# Altium integrated library TI Data Converters Digital to Analog Converter.IntLib: 1533 symbols (part 61 of 99)
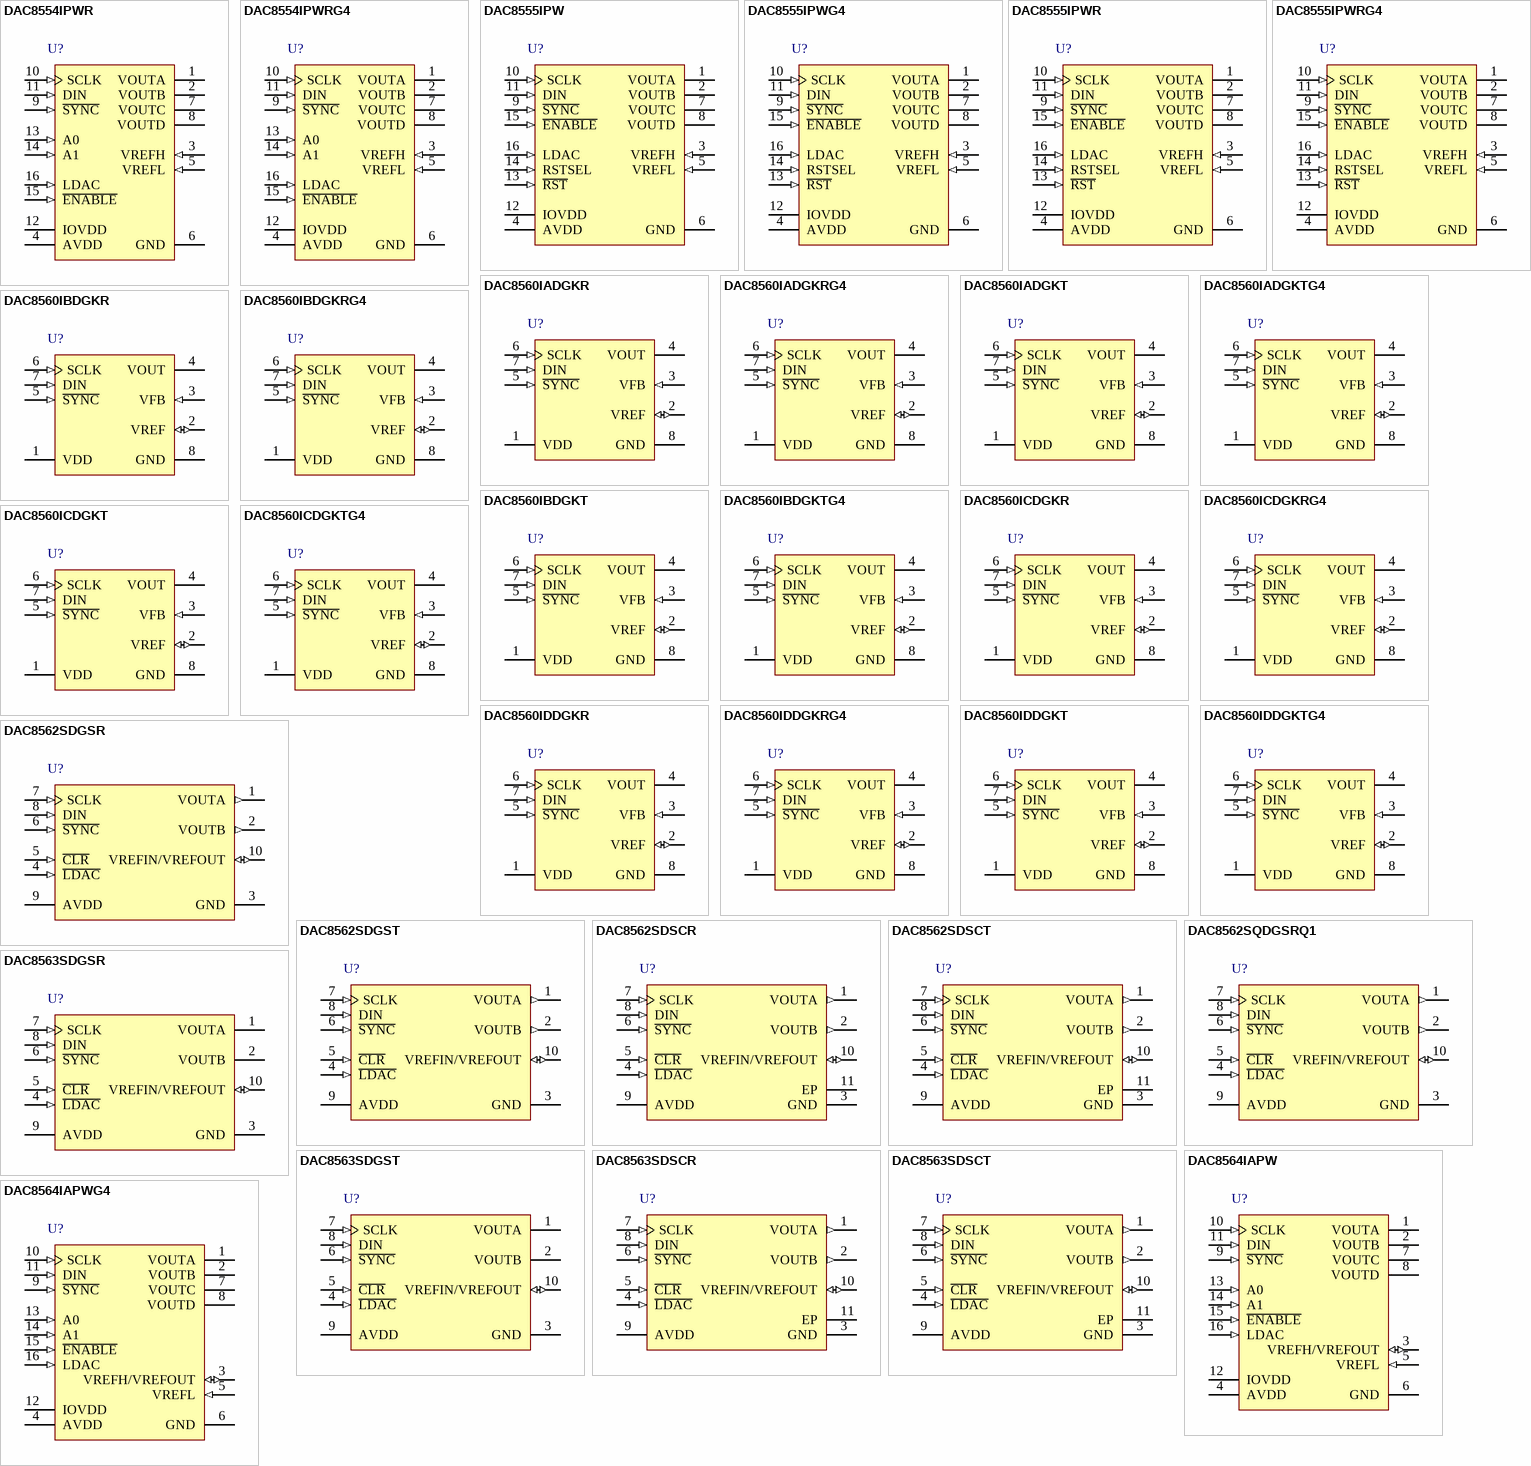
[diagram p133: symbols DAC8554IPWR to DAC8564IAPWG4]

## DAC8560IBDGKT
designator U?
16-Bit, Ultra-Low Glitch, Voltage Output DAC with 2.5 V, 2 ppm/degC Reference, -40 to 105 degC, 8-pin SOP (DGK8), Green (RoHS & no Sb/Br); Manufacturer: Texas Instruments; PartNumber: DAC8560IBDGKT; DAC Channels: 1; INL(Max)(+/-LSB): 8; Interface: Serial SPI; Power Consumption(Typ)(mW): 2.6; Resolution(Bits): 16; SFDR(dB): 79; SNR(dB): 88; SubFamily: Precision DAC (=<10MSPS); DatasheetVersion: SLAS464B; PackageVersion: 4073329/E, 05/2006; PackageReference: DGK8; PackageDescription: 8-Pin Thin Small Outline, Body 3 x 3 mm, Pitch 0.65 mm; Supplier 1: Digi-Key; Supplier Part Number 1: 296-21386-2-ND; Supplier 2: Digi-Key; Supplier Part Number 2: 296-21386-1-ND; Supplier 3: Digi-Key; Supplier Part Number 3: 296-21386-6-ND; Supplier 4: Newark; Supplier Part Number 4: 26M9122; Supplier 5: Mouser; Supplier Part Number 5: 595-DAC8560IBDGKT; DNL(Max)(+/-LSB): 1; Eco-Plan: Green (RoHS & no Sb/Br); Settling Time(us): 8; Mounting Technology: Surface Mount; Code_JEDEC: MO-187; ComponentLink1Description: Manufacturer URL; ComponentLink1URL: http://www.ti.com/; ComponentLink2Description: Datasheet; ComponentLink2URL: http://www.ti.com/general/docs/lit/getliterature.tsp?genericPartNumber=DAC8560&fileType=pdf; ComponentLink3Description: Package Specification; ComponentLink3URL: http://www.ti.com/litv/pdf/mpds028d
footprint TI-DGK8_N (SOP, 8-Leads, Body 3x3mm, Pitch 0.65mm, IPC Medium Density)
footprint TI-DGK8_L (SOP, 8-Leads, Body 3x3mm, Pitch 0.65mm, IPC High Density)
footprint TI-DGK8_M (SOP, 8-Leads, Body 3x3mm, Pitch 0.65mm, IPC Low Density)
pins: 1 VDD (power) "Power-Supply Input, +2.7V to +5.5V.", 2 VREF (io) "Reference voltage input/output.", 3 VFB (in) "Feedback connection for the output amplifier. For voltage output operation, tie to VOUT externally.", 4 VOUT (hiz) "Analog output voltage from DAC. The output amplifier has rail-to-rail operation.", 5 ~{SYNC} (in) "Level-triggered control input (active LOW). This is the frame sychronization signal for the input data. When S\Y\N\C\ goes LOW, it enables the input shift register and data is transferred in on the falling edges of the (See Datasheet)", 6 SCLK (in) "Serial clock input. Schmitt-Trigger logic input", 7 DIN (in) "Serial data input. Data is clocked into the 24-bit input shift register on each falling edge of the serial clock input.Schmitt-Trigger logic Input.", 8 GND (power) "Ground reference point for all circuitry on the part."

## DAC8560IBDGKTG4
designator U?
16-Bit, Ultra-Low Glitch, Voltage Output DAC with 2.5 V, 2 ppm/degC Reference, -40 to 105 degC, 8-pin SOP (DGK8), Green (RoHS & no Sb/Br); Manufacturer: Texas Instruments; PartNumber: DAC8560IBDGKTG4; DAC Channels: 1; INL(Max)(+/-LSB): 8; Interface: Serial SPI; Power Consumption(Typ)(mW): 2.6; Resolution(Bits): 16; SFDR(dB): 79; SNR(dB): 88; SubFamily: Precision DAC (=<10MSPS); DatasheetVersion: SLAS464B; PackageVersion: 4073329/E, 05/2006; PackageReference: DGK8; PackageDescription: 8-Pin Thin Small Outline, Body 3 x 3 mm, Pitch 0.65 mm; Supplier 1: Digi-Key; Supplier Part Number 1: DAC8560IBDGKTG4-ND; Supplier 2: Mouser; Supplier Part Number 2: 595-DAC8560IBDGKTG4; DNL(Max)(+/-LSB): 1; Eco-Plan: Green (RoHS & no Sb/Br); Settling Time(us): 8; Mounting Technology: Surface Mount; Code_JEDEC: MO-187; ComponentLink1Description: Manufacturer URL; ComponentLink1URL: http://www.ti.com/; ComponentLink2Description: Datasheet; ComponentLink2URL: http://www.ti.com/general/docs/lit/getliterature.tsp?genericPartNumber=DAC8560&fileType=pdf; ComponentLink3Description: Package Specification; ComponentLink3URL: http://www.ti.com/litv/pdf/mpds028d
footprint TI-DGK8_N (SOP, 8-Leads, Body 3x3mm, Pitch 0.65mm, IPC Medium Density)
footprint TI-DGK8_L (SOP, 8-Leads, Body 3x3mm, Pitch 0.65mm, IPC High Density)
footprint TI-DGK8_M (SOP, 8-Leads, Body 3x3mm, Pitch 0.65mm, IPC Low Density)
pins: 1 VDD (power) "Power-Supply Input, +2.7V to +5.5V.", 2 VREF (io) "Reference voltage input/output.", 3 VFB (in) "Feedback connection for the output amplifier. For voltage output operation, tie to VOUT externally.", 4 VOUT (hiz) "Analog output voltage from DAC. The output amplifier has rail-to-rail operation.", 5 ~{SYNC} (in) "Level-triggered control input (active LOW). This is the frame sychronization signal for the input data. When S\Y\N\C\ goes LOW, it enables the input shift register and data is transferred in on the falling edges of the (See Datasheet)", 6 SCLK (in) "Serial clock input. Schmitt-Trigger logic input", 7 DIN (in) "Serial data input. Data is clocked into the 24-bit input shift register on each falling edge of the serial clock input.Schmitt-Trigger logic Input.", 8 GND (power) "Ground reference point for all circuitry on the part."

## DAC8560ICDGKR
designator U?
16-Bit, Ultra-Low Glitch, Voltage Output DAC with 2.5 V, 2 ppm/degC Reference, -40 to 105 degC, 8-pin SOP (DGK8), Green (RoHS & no Sb/Br); Manufacturer: Texas Instruments; PartNumber: DAC8560ICDGKR; DAC Channels: 1; INL(Max)(+/-LSB): 12; Interface: Serial SPI; Power Consumption(Typ)(mW): 2.6; Resolution(Bits): 16; Settling Time(us): 8; SFDR(dB): 79; SNR(dB): 88; SubFamily: Precision DAC (=<10MSPS); DatasheetVersion: SLAS464B; PackageVersion: 4073329/E, 05/2006; PackageReference: DGK8; PackageDescription: 8-Pin Thin Small Outline, Body 3 x 3 mm, Pitch 0.65 mm; Supplier 1: Digi-Key; Supplier Part Number 1: DAC8560ICDGKR-ND; Supplier 2: Newark; Supplier Part Number 2: 26M9123; Supplier 3: Mouser; Supplier Part Number 3: 595-DAC8560ICDGKR; DNL(Max)(+/-LSB): 1; Eco-Plan: Green (RoHS & no Sb/Br); Mounting Technology: Surface Mount; Code_JEDEC: MO-187; ComponentLink1Description: Manufacturer URL; ComponentLink1URL: http://www.ti.com/; ComponentLink2Description: Datasheet; ComponentLink2URL: http://www.ti.com/general/docs/lit/getliterature.tsp?genericPartNumber=DAC8560&fileType=pdf; ComponentLink3Description: Package Specification; ComponentLink3URL: http://www.ti.com/litv/pdf/mpds028d
footprint TI-DGK8_N (SOP, 8-Leads, Body 3x3mm, Pitch 0.65mm, IPC Medium Density)
footprint TI-DGK8_L (SOP, 8-Leads, Body 3x3mm, Pitch 0.65mm, IPC High Density)
footprint TI-DGK8_M (SOP, 8-Leads, Body 3x3mm, Pitch 0.65mm, IPC Low Density)
pins: 1 VDD (power) "Power-Supply Input, +2.7V to +5.5V.", 2 VREF (io) "Reference voltage input/output.", 3 VFB (in) "Feedback connection for the output amplifier. For voltage output operation, tie to VOUT externally.", 4 VOUT (hiz) "Analog output voltage from DAC. The output amplifier has rail-to-rail operation.", 5 ~{SYNC} (in) "Level-triggered control input (active LOW). This is the frame sychronization signal for the input data. When S\Y\N\C\ goes LOW, it enables the input shift register and data is transferred in on the falling edges of the (See Datasheet)", 6 SCLK (in) "Serial clock input. Schmitt-Trigger logic input", 7 DIN (in) "Serial data input. Data is clocked into the 24-bit input shift register on each falling edge of the serial clock input.Schmitt-Trigger logic Input.", 8 GND (power) "Ground reference point for all circuitry on the part."

## DAC8560ICDGKRG4
designator U?
16-Bit, Ultra-Low Glitch, Voltage Output DAC with 2.5 V, 2 ppm/degC Reference, -40 to 105 degC, 8-pin SOP (DGK8), Green (RoHS & no Sb/Br); Manufacturer: Texas Instruments; PartNumber: DAC8560ICDGKRG4; DAC Channels: 1; INL(Max)(+/-LSB): 12; Interface: Serial SPI; Power Consumption(Typ)(mW): 2.6; Resolution(Bits): 16; Settling Time(us): 8; SFDR(dB): 79; SNR(dB): 88; SubFamily: Precision DAC (=<10MSPS); DatasheetVersion: SLAS464B; PackageVersion: 4073329/E, 05/2006; PackageReference: DGK8; PackageDescription: 8-Pin Thin Small Outline, Body 3 x 3 mm, Pitch 0.65 mm; Supplier 1: Digi-Key; Supplier Part Number 1: DAC8560ICDGKRG4-ND; Supplier 2: Mouser; Supplier Part Number 2: 595-DAC8560ICDGKRG4; DNL(Max)(+/-LSB): 1; Eco-Plan: Green (RoHS & no Sb/Br); Mounting Technology: Surface Mount; Code_JEDEC: MO-187; ComponentLink1Description: Manufacturer URL; ComponentLink1URL: http://www.ti.com/; ComponentLink2Description: Datasheet; ComponentLink2URL: http://www.ti.com/general/docs/lit/getliterature.tsp?genericPartNumber=DAC8560&fileType=pdf; ComponentLink3Description: Package Specification; ComponentLink3URL: http://www.ti.com/litv/pdf/mpds028d
footprint TI-DGK8_N (SOP, 8-Leads, Body 3x3mm, Pitch 0.65mm, IPC Medium Density)
footprint TI-DGK8_L (SOP, 8-Leads, Body 3x3mm, Pitch 0.65mm, IPC High Density)
footprint TI-DGK8_M (SOP, 8-Leads, Body 3x3mm, Pitch 0.65mm, IPC Low Density)
pins: 1 VDD (power) "Power-Supply Input, +2.7V to +5.5V.", 2 VREF (io) "Reference voltage input/output.", 3 VFB (in) "Feedback connection for the output amplifier. For voltage output operation, tie to VOUT externally.", 4 VOUT (hiz) "Analog output voltage from DAC. The output amplifier has rail-to-rail operation.", 5 ~{SYNC} (in) "Level-triggered control input (active LOW). This is the frame sychronization signal for the input data. When S\Y\N\C\ goes LOW, it enables the input shift register and data is transferred in on the falling edges of the (See Datasheet)", 6 SCLK (in) "Serial clock input. Schmitt-Trigger logic input", 7 DIN (in) "Serial data input. Data is clocked into the 24-bit input shift register on each falling edge of the serial clock input.Schmitt-Trigger logic Input.", 8 GND (power) "Ground reference point for all circuitry on the part."

## DAC8560ICDGKT
designator U?
16-Bit, Ultra-Low Glitch, Voltage Output DAC with 2.5 V, 2 ppm/degC Reference, -40 to 105 degC, 8-pin SOP (DGK8), Green (RoHS & no Sb/Br); Manufacturer: Texas Instruments; PartNumber: DAC8560ICDGKT; DAC Channels: 1; INL(Max)(+/-LSB): 12; Interface: Serial SPI; Power Consumption(Typ)(mW): 2.6; Resolution(Bits): 16; Settling Time(us): 8; SFDR(dB): 79; SNR(dB): 88; SubFamily: Precision DAC (=<10MSPS); DatasheetVersion: SLAS464B; PackageVersion: 4073329/E, 05/2006; PackageReference: DGK8; PackageDescription: 8-Pin Thin Small Outline, Body 3 x 3 mm, Pitch 0.65 mm; Supplier 1: Digi-Key; Supplier Part Number 1: 296-21387-2-ND; Supplier 2: Digi-Key; Supplier Part Number 2: 296-21387-1-ND; Supplier 3: Digi-Key; Supplier Part Number 3: 296-21387-6-ND; Supplier 4: Newark; Supplier Part Number 4: 26M9124; Supplier 5: Mouser; Supplier Part Number 5: 595-DAC8560ICDGKT; DNL(Max)(+/-LSB): 1; Eco-Plan: Green (RoHS & no Sb/Br); Mounting Technology: Surface Mount; Code_JEDEC: MO-187; ComponentLink1Description: Manufacturer URL; ComponentLink1URL: http://www.ti.com/; ComponentLink2Description: Datasheet; ComponentLink2URL: http://www.ti.com/general/docs/lit/getliterature.tsp?genericPartNumber=DAC8560&fileType=pdf; ComponentLink3Description: Package Specification; ComponentLink3URL: http://www.ti.com/litv/pdf/mpds028d
footprint TI-DGK8_N (SOP, 8-Leads, Body 3x3mm, Pitch 0.65mm, IPC Medium Density)
footprint TI-DGK8_L (SOP, 8-Leads, Body 3x3mm, Pitch 0.65mm, IPC High Density)
footprint TI-DGK8_M (SOP, 8-Leads, Body 3x3mm, Pitch 0.65mm, IPC Low Density)
pins: 1 VDD (power) "Power-Supply Input, +2.7V to +5.5V.", 2 VREF (io) "Reference voltage input/output.", 3 VFB (in) "Feedback connection for the output amplifier. For voltage output operation, tie to VOUT externally.", 4 VOUT (hiz) "Analog output voltage from DAC. The output amplifier has rail-to-rail operation.", 5 ~{SYNC} (in) "Level-triggered control input (active LOW). This is the frame sychronization signal for the input data. When S\Y\N\C\ goes LOW, it enables the input shift register and data is transferred in on the falling edges of the (See Datasheet)", 6 SCLK (in) "Serial clock input. Schmitt-Trigger logic input", 7 DIN (in) "Serial data input. Data is clocked into the 24-bit input shift register on each falling edge of the serial clock input.Schmitt-Trigger logic Input.", 8 GND (power) "Ground reference point for all circuitry on the part."

## DAC8560ICDGKTG4
designator U?
16-Bit, Ultra-Low Glitch, Voltage Output DAC with 2.5 V, 2 ppm/degC Reference, -40 to 105 degC, 8-pin SOP (DGK8), Green (RoHS & no Sb/Br); Manufacturer: Texas Instruments; PartNumber: DAC8560ICDGKTG4; DAC Channels: 1; INL(Max)(+/-LSB): 12; Interface: Serial SPI; Power Consumption(Typ)(mW): 2.6; Resolution(Bits): 16; Settling Time(us): 8; SFDR(dB): 79; SNR(dB): 88; SubFamily: Precision DAC (=<10MSPS); DatasheetVersion: SLAS464B; PackageVersion: 4073329/E, 05/2006; PackageReference: DGK8; PackageDescription: 8-Pin Thin Small Outline, Body 3 x 3 mm, Pitch 0.65 mm; Supplier 1: Digi-Key; Supplier Part Number 1: DAC8560ICDGKTG4-ND; Supplier 2: Mouser; Supplier Part Number 2: 595-DAC8560ICDGKTG4; DNL(Max)(+/-LSB): 1; Eco-Plan: Green (RoHS & no Sb/Br); Mounting Technology: Surface Mount; Code_JEDEC: MO-187; ComponentLink1Description: Manufacturer URL; ComponentLink1URL: http://www.ti.com/; ComponentLink2Description: Datasheet; ComponentLink2URL: http://www.ti.com/general/docs/lit/getliterature.tsp?genericPartNumber=DAC8560&fileType=pdf; ComponentLink3Description: Package Specification; ComponentLink3URL: http://www.ti.com/litv/pdf/mpds028d
footprint TI-DGK8_N (SOP, 8-Leads, Body 3x3mm, Pitch 0.65mm, IPC Medium Density)
footprint TI-DGK8_L (SOP, 8-Leads, Body 3x3mm, Pitch 0.65mm, IPC High Density)
footprint TI-DGK8_M (SOP, 8-Leads, Body 3x3mm, Pitch 0.65mm, IPC Low Density)
pins: 1 VDD (power) "Power-Supply Input, +2.7V to +5.5V.", 2 VREF (io) "Reference voltage input/output.", 3 VFB (in) "Feedback connection for the output amplifier. For voltage output operation, tie to VOUT externally.", 4 VOUT (hiz) "Analog output voltage from DAC. The output amplifier has rail-to-rail operation.", 5 ~{SYNC} (in) "Level-triggered control input (active LOW). This is the frame sychronization signal for the input data. When S\Y\N\C\ goes LOW, it enables the input shift register and data is transferred in on the falling edges of the (See Datasheet)", 6 SCLK (in) "Serial clock input. Schmitt-Trigger logic input", 7 DIN (in) "Serial data input. Data is clocked into the 24-bit input shift register on each falling edge of the serial clock input.Schmitt-Trigger logic Input.", 8 GND (power) "Ground reference point for all circuitry on the part."

## DAC8560IDDGKR
designator U?
16-Bit, Ultra-Low Glitch, Voltage Output DAC with 2.5 V, 2 ppm/degC Reference, -40 to 105 degC, 8-pin SOP (DGK8), Green (RoHS & no Sb/Br); Manufacturer: Texas Instruments; PartNumber: DAC8560IDDGKR; DAC Channels: 1; INL(Max)(+/-LSB): 8; Interface: Serial SPI; Power Consumption(Typ)(mW): 2.6; Resolution(Bits): 16; SFDR(dB): 79; SNR(dB): 88; SubFamily: Precision DAC (=<10MSPS); DatasheetVersion: SLAS464B; PackageVersion: 4073329/E, 05/2006; PackageReference: DGK8; PackageDescription: 8-Pin Thin Small Outline, Body 3 x 3 mm, Pitch 0.65 mm; Supplier 1: Digi-Key; Supplier Part Number 1: DAC8560IDDGKR-ND; Supplier 2: Newark; Supplier Part Number 2: 26M9125; Supplier 3: Mouser; Supplier Part Number 3: 595-DAC8560IDDGKR; DNL(Max)(+/-LSB): 1; Eco-Plan: Green (RoHS & no Sb/Br); Settling Time(us): 8; Mounting Technology: Surface Mount; Code_JEDEC: MO-187; ComponentLink1Description: Manufacturer URL; ComponentLink1URL: http://www.ti.com/; ComponentLink2Description: Datasheet; ComponentLink2URL: http://www.ti.com/general/docs/lit/getliterature.tsp?genericPartNumber=DAC8560&fileType=pdf; ComponentLink3Description: Package Specification; ComponentLink3URL: http://www.ti.com/litv/pdf/mpds028d
footprint TI-DGK8_N (SOP, 8-Leads, Body 3x3mm, Pitch 0.65mm, IPC Medium Density)
footprint TI-DGK8_L (SOP, 8-Leads, Body 3x3mm, Pitch 0.65mm, IPC High Density)
footprint TI-DGK8_M (SOP, 8-Leads, Body 3x3mm, Pitch 0.65mm, IPC Low Density)
pins: 1 VDD (power) "Power-Supply Input, +2.7V to +5.5V.", 2 VREF (io) "Reference voltage input/output.", 3 VFB (in) "Feedback connection for the output amplifier. For voltage output operation, tie to VOUT externally.", 4 VOUT (hiz) "Analog output voltage from DAC. The output amplifier has rail-to-rail operation.", 5 ~{SYNC} (in) "Level-triggered control input (active LOW). This is the frame sychronization signal for the input data. When S\Y\N\C\ goes LOW, it enables the input shift register and data is transferred in on the falling edges of the (See Datasheet)", 6 SCLK (in) "Serial clock input. Schmitt-Trigger logic input", 7 DIN (in) "Serial data input. Data is clocked into the 24-bit input shift register on each falling edge of the serial clock input.Schmitt-Trigger logic Input.", 8 GND (power) "Ground reference point for all circuitry on the part."

## DAC8560IDDGKRG4
designator U?
16-Bit, Ultra-Low Glitch, Voltage Output DAC with 2.5 V, 2 ppm/degC Reference, -40 to 105 degC, 8-pin SOP (DGK8), Green (RoHS & no Sb/Br); Manufacturer: Texas Instruments; PartNumber: DAC8560IDDGKRG4; DAC Channels: 1; INL(Max)(+/-LSB): 8; Interface: Serial SPI; Power Consumption(Typ)(mW): 2.6; Resolution(Bits): 16; SFDR(dB): 79; SNR(dB): 88; SubFamily: Precision DAC (=<10MSPS); DatasheetVersion: SLAS464B; PackageVersion: 4073329/E, 05/2006; PackageReference: DGK8; PackageDescription: 8-Pin Thin Small Outline, Body 3 x 3 mm, Pitch 0.65 mm; Supplier 1: Digi-Key; Supplier Part Number 1: DAC8560IDDGKRG4-ND; Supplier 2: Newark; Supplier Part Number 2: 28M5372; Supplier 3: Mouser; Supplier Part Number 3: 595-DAC8560IDDGKRG4; DNL(Max)(+/-LSB): 1; Eco-Plan: Green (RoHS & no Sb/Br); Settling Time(us): 8; Mounting Technology: Surface Mount; Code_JEDEC: MO-187; ComponentLink1Description: Manufacturer URL; ComponentLink1URL: http://www.ti.com/; ComponentLink2Description: Datasheet; ComponentLink2URL: http://www.ti.com/general/docs/lit/getliterature.tsp?genericPartNumber=DAC8560&fileType=pdf; ComponentLink3Description: Package Specification; ComponentLink3URL: http://www.ti.com/litv/pdf/mpds028d
footprint TI-DGK8_N (SOP, 8-Leads, Body 3x3mm, Pitch 0.65mm, IPC Medium Density)
footprint TI-DGK8_L (SOP, 8-Leads, Body 3x3mm, Pitch 0.65mm, IPC High Density)
footprint TI-DGK8_M (SOP, 8-Leads, Body 3x3mm, Pitch 0.65mm, IPC Low Density)
pins: 1 VDD (power) "Power-Supply Input, +2.7V to +5.5V.", 2 VREF (io) "Reference voltage input/output.", 3 VFB (in) "Feedback connection for the output amplifier. For voltage output operation, tie to VOUT externally.", 4 VOUT (hiz) "Analog output voltage from DAC. The output amplifier has rail-to-rail operation.", 5 ~{SYNC} (in) "Level-triggered control input (active LOW). This is the frame sychronization signal for the input data. When S\Y\N\C\ goes LOW, it enables the input shift register and data is transferred in on the falling edges of the (See Datasheet)", 6 SCLK (in) "Serial clock input. Schmitt-Trigger logic input", 7 DIN (in) "Serial data input. Data is clocked into the 24-bit input shift register on each falling edge of the serial clock input.Schmitt-Trigger logic Input.", 8 GND (power) "Ground reference point for all circuitry on the part."

## DAC8560IDDGKT
designator U?
16-Bit, Ultra-Low Glitch, Voltage Output DAC with 2.5 V, 2 ppm/degC Reference, -40 to 105 degC, 8-pin SOP (DGK8), Green (RoHS & no Sb/Br); Manufacturer: Texas Instruments; PartNumber: DAC8560IDDGKT; DAC Channels: 1; INL(Max)(+/-LSB): 8; Interface: Serial SPI; Power Consumption(Typ)(mW): 2.6; Resolution(Bits): 16; SFDR(dB): 79; SNR(dB): 88; SubFamily: Precision DAC (=<10MSPS); DatasheetVersion: SLAS464B; PackageVersion: 4073329/E, 05/2006; PackageReference: DGK8; PackageDescription: 8-Pin Thin Small Outline, Body 3 x 3 mm, Pitch 0.65 mm; Supplier 1: Digi-Key; Supplier Part Number 1: 296-21388-2-ND; Supplier 2: Digi-Key; Supplier Part Number 2: 296-21388-1-ND; Supplier 3: Digi-Key; Supplier Part Number 3: 296-21388-6-ND; Supplier 4: Newark; Supplier Part Number 4: 26M9126; Supplier 5: Mouser; Supplier Part Number 5: 595-DAC8560IDDGKT; DNL(Max)(+/-LSB): 1; Eco-Plan: Green (RoHS & no Sb/Br); Settling Time(us): 8; Mounting Technology: Surface Mount; Code_JEDEC: MO-187; ComponentLink1Description: Manufacturer URL; ComponentLink1URL: http://www.ti.com/; ComponentLink2Description: Datasheet; ComponentLink2URL: http://www.ti.com/general/docs/lit/getliterature.tsp?genericPartNumber=DAC8560&fileType=pdf; ComponentLink3Description: Package Specification; ComponentLink3URL: http://www.ti.com/litv/pdf/mpds028d
footprint TI-DGK8_N (SOP, 8-Leads, Body 3x3mm, Pitch 0.65mm, IPC Medium Density)
footprint TI-DGK8_L (SOP, 8-Leads, Body 3x3mm, Pitch 0.65mm, IPC High Density)
footprint TI-DGK8_M (SOP, 8-Leads, Body 3x3mm, Pitch 0.65mm, IPC Low Density)
pins: 1 VDD (power) "Power-Supply Input, +2.7V to +5.5V.", 2 VREF (io) "Reference voltage input/output.", 3 VFB (in) "Feedback connection for the output amplifier. For voltage output operation, tie to VOUT externally.", 4 VOUT (hiz) "Analog output voltage from DAC. The output amplifier has rail-to-rail operation.", 5 ~{SYNC} (in) "Level-triggered control input (active LOW). This is the frame sychronization signal for the input data. When S\Y\N\C\ goes LOW, it enables the input shift register and data is transferred in on the falling edges of the (See Datasheet)", 6 SCLK (in) "Serial clock input. Schmitt-Trigger logic input", 7 DIN (in) "Serial data input. Data is clocked into the 24-bit input shift register on each falling edge of the serial clock input.Schmitt-Trigger logic Input.", 8 GND (power) "Ground reference point for all circuitry on the part."

## DAC8560IDDGKTG4
designator U?
16-Bit, Ultra-Low Glitch, Voltage Output DAC with 2.5 V, 2 ppm/degC Reference, -40 to 105 degC, 8-pin SOP (DGK8), Green (RoHS & no Sb/Br); Manufacturer: Texas Instruments; PartNumber: DAC8560IDDGKTG4; DAC Channels: 1; INL(Max)(+/-LSB): 8; Interface: Serial SPI; Power Consumption(Typ)(mW): 2.6; Resolution(Bits): 16; SFDR(dB): 79; SNR(dB): 88; SubFamily: Precision DAC (=<10MSPS); DatasheetVersion: SLAS464B; PackageVersion: 4073329/E, 05/2006; PackageReference: DGK8; PackageDescription: 8-Pin Thin Small Outline, Body 3 x 3 mm, Pitch 0.65 mm; Supplier 1: Digi-Key; Supplier Part Number 1: DAC8560IDDGKTG4-ND; Supplier 2: Farnell; Supplier Part Number 2: 1390683; Supplier 3: Newark; Supplier Part Number 3: 61M5760; Supplier 4: Newark; Supplier Part Number 4: 28M5373; Supplier 5: Mouser; Supplier Part Number 5: 595-DAC8560IDDGKTG4; DNL(Max)(+/-LSB): 1; Eco-Plan: Green (RoHS & no Sb/Br); Settling Time(us): 8; Mounting Technology: Surface Mount; Code_JEDEC: MO-187; ComponentLink1Description: Manufacturer URL; ComponentLink1URL: http://www.ti.com/; ComponentLink2Description: Datasheet; ComponentLink2URL: http://www.ti.com/general/docs/lit/getliterature.tsp?genericPartNumber=DAC8560&fileType=pdf; ComponentLink3Description: Package Specification; ComponentLink3URL: http://www.ti.com/litv/pdf/mpds028d
footprint TI-DGK8_N (SOP, 8-Leads, Body 3x3mm, Pitch 0.65mm, IPC Medium Density)
footprint TI-DGK8_L (SOP, 8-Leads, Body 3x3mm, Pitch 0.65mm, IPC High Density)
footprint TI-DGK8_M (SOP, 8-Leads, Body 3x3mm, Pitch 0.65mm, IPC Low Density)
pins: 1 VDD (power) "Power-Supply Input, +2.7V to +5.5V.", 2 VREF (io) "Reference voltage input/output.", 3 VFB (in) "Feedback connection for the output amplifier. For voltage output operation, tie to VOUT externally.", 4 VOUT (hiz) "Analog output voltage from DAC. The output amplifier has rail-to-rail operation.", 5 ~{SYNC} (in) "Level-triggered control input (active LOW). This is the frame sychronization signal for the input data. When S\Y\N\C\ goes LOW, it enables the input shift register and data is transferred in on the falling edges of the (See Datasheet)", 6 SCLK (in) "Serial clock input. Schmitt-Trigger logic input", 7 DIN (in) "Serial data input. Data is clocked into the 24-bit input shift register on each falling edge of the serial clock input.Schmitt-Trigger logic Input.", 8 GND (power) "Ground reference point for all circuitry on the part."

## DAC8562SDGSR
designator U?
16-Bit, Dual, Low Power, Ultra-Low Glitch, Buffered Voltage Output DAC with 2.5 V, 4 ppm/degC Reference, -40 to 125 degC, 10-pin SOP (DGS10), Green (RoHS & no Sb/Br); Manufacturer: Texas Instruments; PartNumber: DAC8562SDGSR; DAC Channels: 2; DNL(Max)(+/-LSB): 1; INL(Max)(+/-LSB): 12; Interface: Serial SPI; Power Consumption(Typ)(mW): 0.9; Resolution(Bits): 16; Settling Time(us): 7; SubFamily: Precision DAC (=<10MSPS); DatasheetVersion: SLAS719D; PackageVersion: 4073272/C, 02/2004; PackageReference: DGS10; PackageDescription: 10-Pin Plastic Small Outline, Body 3 x 3 mm, Pitch 0.5 mm; Supplier 1: Digi-Key; Supplier Part Number 1: 296-29030-2-ND; Supplier 2: Digi-Key; Supplier Part Number 2: 296-29030-1-ND; Supplier 3: Digi-Key; Supplier Part Number 3: 296-29030-6-ND; Supplier 4: Newark; Supplier Part Number 4: 52T7723; Supplier 5: Mouser; Supplier Part Number 5: 595-DAC8562SDGSR; Eco-Plan: Green (RoHS & no Sb/Br); Mounting Technology: Surface Mount; Code_JEDEC: MO-153; ComponentLink1Description: Manufacturer URL; ComponentLink1URL: http://www.ti.com/; ComponentLink2Description: Datasheet; ComponentLink2URL: http://www.ti.com/general/docs/lit/getliterature.tsp?genericPartNumber=DAC8562&fileType=pdf; ComponentLink3Description: Package Specification; ComponentLink3URL: http://www.ti.com/lit/ml/mpds035b/mpds035b.pdf
footprint TI-DGS10_N (SOP, 10-Leads, Body 3x3mm, Pitch 0.5mm, IPC Medium Density)
footprint TI-DGS10_L (SOP, 10-Leads, Body 3x3mm, Pitch 0.5mm, IPC High Density)
footprint TI-DGS10_M (SOP, 10-Leads, Body 3x3mm, Pitch 0.5mm, IPC Low Density)
pins: 1 VOUTA (out) "Analog output voltage from DAC-A", 2 VOUTB (out) "Analog output voltage from DAC-B", 3 GND (power) "Ground reference point for all circuitry on the device", 4 ~{LDAC} (in) "In synchronous mode, data are updated with the falling edge of the 24th SCLK cycle, which follows a falling edge of S\Y\N\C\. For such synchronous updates, the L\D\A\C\ pin is not required, and it must be connected to GND (See Datasheet)", 5 ~{CLR} (in) "Asynchronous clear input. The C\L\R\ input is falling-edge sensitive. When C\L\R\ is activated, zero scale (DACxx62) or mid-scale (DACxx63) is loaded to all input and DAC registers. This sets the DAC output voltages (See Datasheet)", 6 ~{SYNC} (in) "Level-triggered control input (active-low). This input is the frame synchronization signal for the input data. When S\Y\N\C\ goes low, it enables the input shift register, and data are sampled on subsequent falling clock (See Datasheet)", 7 SCLK (in) "Serial clock input. Data can be transferred at rates up to 50 MHz. Schmitt-trigger logic input", 8 DIN (in) "Serial data input. Data are clocked into the 24-bit input shift register on each falling edge of the serial clock input. Schmitt-trigger logic input", 9 AVDD (power) "Power-supply input, 2.7 V to 5.5 V", 10 VREFIN/VREFOUT (io) "Bidirectional voltage reference pin. If internal reference is used, 2.5-V output."

## DAC8562SDGST
designator U?
16-Bit, Dual, Low Power, Ultra-Low Glitch, Buffered Voltage Output DAC with 2.5 V, 4 ppm/degC Reference, -40 to 125 degC, 10-pin SOP (DGS10), Green (RoHS & no Sb/Br); Manufacturer: Texas Instruments; PartNumber: DAC8562SDGST; DAC Channels: 2; DNL(Max)(+/-LSB): 1; INL(Max)(+/-LSB): 12; Interface: Serial SPI; Power Consumption(Typ)(mW): 0.9; Resolution(Bits): 16; Settling Time(us): 7; SubFamily: Precision DAC (=<10MSPS); DatasheetVersion: SLAS719D; PackageVersion: 4073272/C, 02/2004; PackageReference: DGS10; PackageDescription: 10-Pin Plastic Small Outline, Body 3 x 3 mm, Pitch 0.5 mm; Supplier 1: Digi-Key; Supplier Part Number 1: DAC8562SDGST-ND; Supplier 2: Newark; Supplier Part Number 2: 51T4338; Supplier 3: Mouser; Supplier Part Number 3: 595-DAC8562SDGST; Eco-Plan: Green (RoHS & no Sb/Br); Mounting Technology: Surface Mount; Code_JEDEC: MO-153; ComponentLink1Description: Manufacturer URL; ComponentLink1URL: http://www.ti.com/; ComponentLink2Description: Datasheet; ComponentLink2URL: http://www.ti.com/general/docs/lit/getliterature.tsp?genericPartNumber=DAC8562&fileType=pdf; ComponentLink3Description: Package Specification; ComponentLink3URL: http://www.ti.com/lit/ml/mpds035b/mpds035b.pdf
footprint TI-DGS10_N (SOP, 10-Leads, Body 3x3mm, Pitch 0.5mm, IPC Medium Density)
footprint TI-DGS10_L (SOP, 10-Leads, Body 3x3mm, Pitch 0.5mm, IPC High Density)
footprint TI-DGS10_M (SOP, 10-Leads, Body 3x3mm, Pitch 0.5mm, IPC Low Density)
pins: 1 VOUTA (out) "Analog output voltage from DAC-A", 2 VOUTB (out) "Analog output voltage from DAC-B", 3 GND (power) "Ground reference point for all circuitry on the device", 4 ~{LDAC} (in) "In synchronous mode, data are updated with the falling edge of the 24th SCLK cycle, which follows a falling edge of S\Y\N\C\. For such synchronous updates, the L\D\A\C\ pin is not required, and it must be connected to GND (See Datasheet)", 5 ~{CLR} (in) "Asynchronous clear input. The C\L\R\ input is falling-edge sensitive. When C\L\R\ is activated, zero scale (DACxx62) or mid-scale (DACxx63) is loaded to all input and DAC registers. This sets the DAC output voltages (See Datasheet)", 6 ~{SYNC} (in) "Level-triggered control input (active-low). This input is the frame synchronization signal for the input data. When S\Y\N\C\ goes low, it enables the input shift register, and data are sampled on subsequent falling clock (See Datasheet)", 7 SCLK (in) "Serial clock input. Data can be transferred at rates up to 50 MHz. Schmitt-trigger logic input", 8 DIN (in) "Serial data input. Data are clocked into the 24-bit input shift register on each falling edge of the serial clock input. Schmitt-trigger logic input", 9 AVDD (power) "Power-supply input, 2.7 V to 5.5 V", 10 VREFIN/VREFOUT (io) "Bidirectional voltage reference pin. If internal reference is used, 2.5-V output."

## DAC8562SDSCR
designator U?
16-Bit, Dual, Low Power, Ultra-Low Glitch, Buffered Voltage Output DAC with 2.5 V, 4 ppm/degC Reference, -40 to 125 degC, 10-pin SON (DSC10), Green (RoHS & no Sb/Br); Manufacturer: Texas Instruments; PartNumber: DAC8562SDSCR; DAC Channels: 2; DNL(Max)(+/-LSB): 1; INL(Max)(+/-LSB): 12; Interface: Serial SPI; Power Consumption(Typ)(mW): 0.9; Resolution(Bits): 16; Settling Time(us): 7; SubFamily: Precision DAC (=<10MSPS); DatasheetVersion: SLAS719D; PackageVersion: 4207383/E, 01/2011; PackageReference: DSC10-2550X1050TP; PackageDescription: 10-Pin Plastic Small Outline No-Lead, Body 3 x 3 mm, Pitch 0.5 mm; Supplier 1: Digi-Key; Supplier Part Number 1: 296-29031-2-ND; Supplier 2: Digi-Key; Supplier Part Number 2: 296-29031-1-ND; Supplier 3: Digi-Key; Supplier Part Number 3: 296-29031-6-ND; Supplier 4: Mouser; Supplier Part Number 4: 595-DAC8562SDSCR; Eco-Plan: Green (RoHS & no Sb/Br); Mounting Technology: Surface Mount; ComponentLink1Description: Manufacturer URL; ComponentLink1URL: http://www.ti.com/; ComponentLink2Description: Datasheet; ComponentLink2URL: http://www.ti.com/general/docs/lit/getliterature.tsp?genericPartNumber=DAC8562&fileType=pdf; ComponentLink3Description: Package Specification; ComponentLink3URL: http://www.ti.com/litv/pdf/mpds239d
footprint TI-DSC10-2550X1050TP_V (SON, 10-Leads, Body 3x3mm, Pitch 0.5mm, Thermal Pad 2.91x1.05mm)
pins: 1 VOUTA (out) "Analog output voltage from DAC-A", 2 VOUTB (out) "Analog output voltage from DAC-B", 3 GND (power) "Ground reference point for all circuitry on the device", 4 ~{LDAC} (in) "In synchronous mode, data are updated with the falling edge of the 24th SCLK cycle, which follows a falling edge of S\Y\N\C\. For such synchronous updates, the L\D\A\C\ pin is not required, and it must be connected to GND (See Datasheet)", 5 ~{CLR} (in) "Asynchronous clear input. The C\L\R\ input is falling-edge sensitive. When C\L\R\ is activated, zero scale (DACxx62) or mid-scale (DACxx63) is loaded to all input and DAC registers. This sets the DAC output voltages (See Datasheet)", 6 ~{SYNC} (in) "Level-triggered control input (active-low). This input is the frame synchronization signal for the input data. When S\Y\N\C\ goes low, it enables the input shift register, and data are sampled on subsequent falling clock (See Datasheet)", 7 SCLK (in) "Serial clock input. Data can be transferred at rates up to 50 MHz. Schmitt-trigger logic input", 8 DIN (in) "Serial data input. Data are clocked into the 24-bit input shift register on each falling edge of the serial clock input. Schmitt-trigger logic input", 9 AVDD (power) "Power-supply input, 2.7 V to 5.5 V", 10 VREFIN/VREFOUT (io) "Bidirectional voltage reference pin. If internal reference is used, 2.5-V output.", 11 EP (power) "It is recommended to connect the thermal pad to the ground plane for better thermal dissipation."

## DAC8562SDSCT
designator U?
16-Bit, Dual, Low Power, Ultra-Low Glitch, Buffered Voltage Output DAC with 2.5 V, 4 ppm/degC Reference, -40 to 125 degC, 10-pin SON (DSC10), Green (RoHS & no Sb/Br); Manufacturer: Texas Instruments; PartNumber: DAC8562SDSCT; DAC Channels: 2; DNL(Max)(+/-LSB): 1; INL(Max)(+/-LSB): 12; Interface: Serial SPI; Power Consumption(Typ)(mW): 0.9; Resolution(Bits): 16; Settling Time(us): 7; SubFamily: Precision DAC (=<10MSPS); DatasheetVersion: SLAS719D; PackageVersion: 4207383/E, 01/2011; PackageReference: DSC10-2550X1050TP; PackageDescription: 10-Pin Plastic Small Outline No-Lead, Body 3 x 3 mm, Pitch 0.5 mm; Supplier 1: Digi-Key; Supplier Part Number 1: 296-29098-2-ND; Supplier 2: Digi-Key; Supplier Part Number 2: 296-29098-1-ND; Supplier 3: Digi-Key; Supplier Part Number 3: 296-29098-6-ND; Supplier 4: Farnell; Supplier Part Number 4: 1924805; Supplier 5: Newark; Supplier Part Number 5: 51T4339; Supplier 6: Mouser; Supplier Part Number 6: 595-DAC8562SDSCT; Eco-Plan: Green (RoHS & no Sb/Br); Mounting Technology: Surface Mount; ComponentLink1Description: Manufacturer URL; ComponentLink1URL: http://www.ti.com/; ComponentLink2Description: Datasheet; ComponentLink2URL: http://www.ti.com/general/docs/lit/getliterature.tsp?genericPartNumber=DAC8562&fileType=pdf; ComponentLink3Description: Package Specification; ComponentLink3URL: http://www.ti.com/litv/pdf/mpds239d
footprint TI-DSC10-2550X1050TP_V (SON, 10-Leads, Body 3x3mm, Pitch 0.5mm, Thermal Pad 2.91x1.05mm)
pins: 1 VOUTA (out) "Analog output voltage from DAC-A", 2 VOUTB (out) "Analog output voltage from DAC-B", 3 GND (power) "Ground reference point for all circuitry on the device", 4 ~{LDAC} (in) "In synchronous mode, data are updated with the falling edge of the 24th SCLK cycle, which follows a falling edge of S\Y\N\C\. For such synchronous updates, the L\D\A\C\ pin is not required, and it must be connected to GND (See Datasheet)", 5 ~{CLR} (in) "Asynchronous clear input. The C\L\R\ input is falling-edge sensitive. When C\L\R\ is activated, zero scale (DACxx62) or mid-scale (DACxx63) is loaded to all input and DAC registers. This sets the DAC output voltages (See Datasheet)", 6 ~{SYNC} (in) "Level-triggered control input (active-low). This input is the frame synchronization signal for the input data. When S\Y\N\C\ goes low, it enables the input shift register, and data are sampled on subsequent falling clock (See Datasheet)", 7 SCLK (in) "Serial clock input. Data can be transferred at rates up to 50 MHz. Schmitt-trigger logic input", 8 DIN (in) "Serial data input. Data are clocked into the 24-bit input shift register on each falling edge of the serial clock input. Schmitt-trigger logic input", 9 AVDD (power) "Power-supply input, 2.7 V to 5.5 V", 10 VREFIN/VREFOUT (io) "Bidirectional voltage reference pin. If internal reference is used, 2.5-V output.", 11 EP (power) "It is recommended to connect the thermal pad to the ground plane for better thermal dissipation."

## DAC8562SQDGSRQ1
designator U?
Automotive 16-Bit, Dual, Low Power, Ultra-Low Glitch, Buffered Voltage Out DAC with 2.5 V, 4 ppm/degC Reference, -40 to 125 degC, 10-pin SOP (DGS10); Manufacturer: Texas Instruments; PartNumber: DAC8562SQDGSRQ1; DAC Channels: 2; DNL(Max)(+/-LSB): 1; INL(Max)(+/-LSB): 12; Packing: LARGE T&R; Power Consumption(Typ)(mW): 0.54; Resolution(Bits): 16; Settling Time(us): 7; SubFamily: Precision DAC (=<10MSPS); DatasheetVersion: SLAS950; PackageVersion: 4073272/C, 02/2004; PackageReference: DGS10; PackageDescription: 10-Pin Plastic Small Outline, Body 3 x 3 mm, Pitch 0.5 mm; Supplier 1: Newark; Supplier Part Number 1: 94W8070; Supplier 2: Mouser; Supplier Part Number 2: 595-DAC8562SQDGSRQ1; Mounting Technology: Surface Mount; Code_JEDEC: MO-153; ComponentLink1Description: Manufacturer URL; ComponentLink1URL: http://www.ti.com/; ComponentLink2Description: Datasheet; ComponentLink2URL: http://www.ti.com/lit/ds/symlink/dac8562-q1.pdf; ComponentLink3Description: Package Specification; ComponentLink3URL: http://www.ti.com/lit/ml/mpds035b/mpds035b.pdf
footprint TI-DGS10_N (SOP, 10-Leads, Body 3x3mm, Pitch 0.5mm, IPC Medium Density)
footprint TI-DGS10_L (SOP, 10-Leads, Body 3x3mm, Pitch 0.5mm, IPC High Density)
footprint TI-DGS10_M (SOP, 10-Leads, Body 3x3mm, Pitch 0.5mm, IPC Low Density)
pins: 1 VOUTA (out) "Analog output voltage from DAC-A", 2 VOUTB (out) "Analog output voltage from DAC-B", 3 GND (power) "Ground reference point for all circuitry on the device", 4 ~{LDAC} (in) "In synchronous mode, data are updated with the falling edge of the 24th SCLK cycle, which follows a falling edge of S\Y\N\C\. For such synchronous updates, the L\D\A\C\ pin is not required, and it must be connected to GND (See Datasheet)", 5 ~{CLR} (in) "Asynchronous clear input. The C\L\R\ input is falling-edge sensitive. When C\L\R\ is activated, zero scale (DACxx62) or mid-scale (DACxx63) is loaded to all input and DAC registers. This sets the DAC output voltages (See Datasheet)", 6 ~{SYNC} (in) "Level-triggered control input (active-low). This input is the frame synchronization signal for the input data. When S\Y\N\C\ goes low, it enables the input shift register, and data are sampled on subsequent falling clock (See Datasheet)", 7 SCLK (in) "Serial clock input. Data can be transferred at rates up to 50 MHz. Schmitt-trigger logic input", 8 DIN (in) "Serial data input. Data are clocked into the 24-bit input shift register on each falling edge of the serial clock input. Schmitt-trigger logic input", 9 AVDD (power) "Power-supply input, 2.7 V to 5.5 V", 10 VREFIN/VREFOUT (io) "Bidirectional voltage reference pin. If internal reference is used, 2.5-V output."

## DAC8563SDGSR
designator U?
16-Bit, Dual, Low Power, Ultra-Low Glitch, Buffered Voltage Output DAC with 2.5 V, 4 ppm/degC Reference, -40 to 125 degC, 10-pin SOP (DGS10), Green (RoHS & no Sb/Br); Manufacturer: Texas Instruments; PartNumber: DAC8563SDGSR; DAC Channels: 2; DNL(Max)(+/-LSB): 1; INL(Max)(+/-LSB): 12; Interface: Serial SPI; Power Consumption(Typ)(mW): 0.9; Resolution(Bits): 16; Settling Time(us): 7; SubFamily: Precision DAC (=<10MSPS); DatasheetVersion: SLAS719D; PackageVersion: 4073272/C, 02/2004; PackageReference: DGS10; PackageDescription: 10-Pin Plastic Small Outline, Body 3 x 3 mm, Pitch 0.5 mm; Supplier 1: Digi-Key; Supplier Part Number 1: 296-29032-2-ND; Supplier 2: Digi-Key; Supplier Part Number 2: 296-29032-1-ND; Supplier 3: Digi-Key; Supplier Part Number 3: 296-29032-6-ND; Supplier 4: Mouser; Supplier Part Number 4: 595-DAC8563SDGSR; Eco-Plan: Green (RoHS & no Sb/Br); Mounting Technology: Surface Mount; Code_JEDEC: MO-153; ComponentLink1Description: Manufacturer URL; ComponentLink1URL: http://www.ti.com/; ComponentLink2Description: Datasheet; ComponentLink2URL: http://www.ti.com/general/docs/lit/getliterature.tsp?genericPartNumber=DAC8563&fileType=pdf; ComponentLink3Description: Package Specification; ComponentLink3URL: http://www.ti.com/lit/ml/mpds035b/mpds035b.pdf
footprint TI-DGS10_N (SOP, 10-Leads, Body 3x3mm, Pitch 0.5mm, IPC Medium Density)
footprint TI-DGS10_L (SOP, 10-Leads, Body 3x3mm, Pitch 0.5mm, IPC High Density)
footprint TI-DGS10_M (SOP, 10-Leads, Body 3x3mm, Pitch 0.5mm, IPC Low Density)
pins: 1 VOUTA (hiz) "Analog output voltage from DAC-A", 2 VOUTB (hiz) "Analog output voltage from DAC-B", 3 GND (power) "Ground reference point for all circuitry on the device", 4 ~{LDAC} (in) "In synchronous mode, data are updated with the falling edge of the 24th SCLK cycle, which follows a falling edge of S\Y\N\C\. For such synchronous updates, the L\D\A\C\ pin is not required, and it must be connected to GND (See Datasheet)", 5 ~{CLR} (in) "Asynchronous clear input. The C\L\R\ input is falling-edge sensitive. When C\L\R\ is activated, zero scale (DACxx62) or mid-scale (DACxx63) is loaded to all input and DAC registers. This sets the DAC output voltages (See Datasheet)", 6 ~{SYNC} (in) "Level-triggered control input (active-low). This input is the frame synchronization signal for the input data. When S\Y\N\C\ goes low, it enables the input shift register, and data are sampled on subsequent falling clock (See Datasheet)", 7 SCLK (in) "Serial clock input. Data can be transferred at rates up to 50 MHz. Schmitt-trigger logic input", 8 DIN (in) "Serial data input. Data are clocked into the 24-bit input shift register on each falling edge of the serial clock input. Schmitt-trigger logic input", 9 AVDD (power) "Power-supply input, 2.7 V to 5.5 V", 10 VREFIN/VREFOUT (io) "Bidirectional voltage reference pin. If internal reference is used, 2.5-V output."

## DAC8563SDGST
designator U?
16-Bit, Dual, Low Power, Ultra-Low Glitch, Buffered Voltage Output DAC with 2.5 V, 4 ppm/degC Reference, -40 to 125 degC, 10-pin SOP (DGS10), Green (RoHS & no Sb/Br); Manufacturer: Texas Instruments; PartNumber: DAC8563SDGST; DAC Channels: 2; DNL(Max)(+/-LSB): 1; INL(Max)(+/-LSB): 12; Interface: Serial SPI; Power Consumption(Typ)(mW): 0.9; Resolution(Bits): 16; Settling Time(us): 7; SubFamily: Precision DAC (=<10MSPS); DatasheetVersion: SLAS719D; PackageVersion: 4073272/C, 02/2004; PackageReference: DGS10; PackageDescription: 10-Pin Plastic Small Outline, Body 3 x 3 mm, Pitch 0.5 mm; Supplier 1: Digi-Key; Supplier Part Number 1: 296-32089-2-ND; Supplier 2: Digi-Key; Supplier Part Number 2: 296-32089-1-ND; Supplier 3: Digi-Key; Supplier Part Number 3: 296-32089-6-ND; Supplier 4: Newark; Supplier Part Number 4: 51T4340; Supplier 5: Mouser; Supplier Part Number 5: 595-DAC8563SDGST; Eco-Plan: Green (RoHS & no Sb/Br); Mounting Technology: Surface Mount; Code_JEDEC: MO-153; ComponentLink1Description: Manufacturer URL; ComponentLink1URL: http://www.ti.com/; ComponentLink2Description: Datasheet; ComponentLink2URL: http://www.ti.com/general/docs/lit/getliterature.tsp?genericPartNumber=DAC8563&fileType=pdf; ComponentLink3Description: Package Specification; ComponentLink3URL: http://www.ti.com/lit/ml/mpds035b/mpds035b.pdf
footprint TI-DGS10_N (SOP, 10-Leads, Body 3x3mm, Pitch 0.5mm, IPC Medium Density)
footprint TI-DGS10_L (SOP, 10-Leads, Body 3x3mm, Pitch 0.5mm, IPC High Density)
footprint TI-DGS10_M (SOP, 10-Leads, Body 3x3mm, Pitch 0.5mm, IPC Low Density)
pins: 1 VOUTA (hiz) "Analog output voltage from DAC-A", 2 VOUTB (hiz) "Analog output voltage from DAC-B", 3 GND (power) "Ground reference point for all circuitry on the device", 4 ~{LDAC} (in) "In synchronous mode, data are updated with the falling edge of the 24th SCLK cycle, which follows a falling edge of S\Y\N\C\. For such synchronous updates, the L\D\A\C\ pin is not required, and it must be connected to GND (See Datasheet)", 5 ~{CLR} (in) "Asynchronous clear input. The C\L\R\ input is falling-edge sensitive. When C\L\R\ is activated, zero scale (DACxx62) or mid-scale (DACxx63) is loaded to all input and DAC registers. This sets the DAC output voltages (See Datasheet)", 6 ~{SYNC} (in) "Level-triggered control input (active-low). This input is the frame synchronization signal for the input data. When S\Y\N\C\ goes low, it enables the input shift register, and data are sampled on subsequent falling clock (See Datasheet)", 7 SCLK (in) "Serial clock input. Data can be transferred at rates up to 50 MHz. Schmitt-trigger logic input", 8 DIN (in) "Serial data input. Data are clocked into the 24-bit input shift register on each falling edge of the serial clock input. Schmitt-trigger logic input", 9 AVDD (power) "Power-supply input, 2.7 V to 5.5 V", 10 VREFIN/VREFOUT (io) "Bidirectional voltage reference pin. If internal reference is used, 2.5-V output."

## DAC8563SDSCR
designator U?
16-Bit, Dual, Low Power, Ultra-Low Glitch, Buffered Voltage Output DAC with 2.5 V, 4 ppm/degC Reference, -40 to 125 degC, 10-pin SON (DSC10), Green (RoHS & no Sb/Br); Manufacturer: Texas Instruments; PartNumber: DAC8563SDSCR; DAC Channels: 2; DNL(Max)(+/-LSB): 1; INL(Max)(+/-LSB): 12; Interface: Serial SPI; Power Consumption(Typ)(mW): 0.9; Resolution(Bits): 16; Settling Time(us): 7; SubFamily: Precision DAC (=<10MSPS); DatasheetVersion: SLAS719D; PackageVersion: 4207383/E, 01/2011; PackageReference: DSC10-2550X1050TP; PackageDescription: 10-Pin Plastic Small Outline No-Lead, Body 3 x 3 mm, Pitch 0.5 mm; Supplier 1: Digi-Key; Supplier Part Number 1: 296-29033-2-ND; Supplier 2: Digi-Key; Supplier Part Number 2: 296-29033-1-ND; Supplier 3: Digi-Key; Supplier Part Number 3: 296-29033-6-ND; Supplier 4: Mouser; Supplier Part Number 4: 595-DAC8563SDSCR; Eco-Plan: Green (RoHS & no Sb/Br); Mounting Technology: Surface Mount; ComponentLink1Description: Manufacturer URL; ComponentLink1URL: http://www.ti.com/; ComponentLink2Description: Datasheet; ComponentLink2URL: http://www.ti.com/general/docs/lit/getliterature.tsp?genericPartNumber=DAC8563&fileType=pdf; ComponentLink3Description: Package Specification; ComponentLink3URL: http://www.ti.com/litv/pdf/mpds239d
footprint TI-DSC10-2550X1050TP_V (SON, 10-Leads, Body 3x3mm, Pitch 0.5mm, Thermal Pad 2.91x1.05mm)
pins: 1 VOUTA (out) "Analog output voltage from DAC-A", 2 VOUTB (out) "Analog output voltage from DAC-B", 3 GND (power) "Ground reference point for all circuitry on the device", 4 ~{LDAC} (in) "In synchronous mode, data are updated with the falling edge of the 24th SCLK cycle, which follows a falling edge of S\Y\N\C\. For such synchronous updates, the L\D\A\C\ pin is not required, and it must be connected to GND (See Datasheet)", 5 ~{CLR} (in) "Asynchronous clear input. The C\L\R\ input is falling-edge sensitive. When C\L\R\ is activated, zero scale (DACxx62) or mid-scale (DACxx63) is loaded to all input and DAC registers. This sets the DAC output voltages (See Datasheet)", 6 ~{SYNC} (in) "Level-triggered control input (active-low). This input is the frame synchronization signal for the input data. When S\Y\N\C\ goes low, it enables the input shift register, and data are sampled on subsequent falling clock (See Datasheet)", 7 SCLK (in) "Serial clock input. Data can be transferred at rates up to 50 MHz. Schmitt-trigger logic input", 8 DIN (in) "Serial data input. Data are clocked into the 24-bit input shift register on each falling edge of the serial clock input. Schmitt-trigger logic input", 9 AVDD (power) "Power-supply input, 2.7 V to 5.5 V", 10 VREFIN/VREFOUT (io) "Bidirectional voltage reference pin. If internal reference is used, 2.5-V output.", 11 EP (power) "It is recommended to connect the thermal pad to the ground plane for better thermal dissipation."

## DAC8563SDSCT
designator U?
16-Bit, Dual, Low Power, Ultra-Low Glitch, Buffered Voltage Output DAC with 2.5 V, 4 ppm/degC Reference, -40 to 125 degC, 10-pin SON (DSC10), Green (RoHS & no Sb/Br); Manufacturer: Texas Instruments; PartNumber: DAC8563SDSCT; DAC Channels: 2; DNL(Max)(+/-LSB): 1; INL(Max)(+/-LSB): 12; Interface: Serial SPI; Power Consumption(Typ)(mW): 0.9; Resolution(Bits): 16; Settling Time(us): 7; SubFamily: Precision DAC (=<10MSPS); DatasheetVersion: SLAS719D; PackageVersion: 4207383/E, 01/2011; PackageReference: DSC10-2550X1050TP; PackageDescription: 10-Pin Plastic Small Outline No-Lead, Body 3 x 3 mm, Pitch 0.5 mm; Supplier 1: Digi-Key; Supplier Part Number 1: 296-29099-2-ND; Supplier 2: Digi-Key; Supplier Part Number 2: 296-29099-1-ND; Supplier 3: Digi-Key; Supplier Part Number 3: 296-29099-6-ND; Supplier 4: Farnell; Supplier Part Number 4: 1924806; Supplier 5: Newark; Supplier Part Number 5: 51T4341; Supplier 6: Mouser; Supplier Part Number 6: 595-DAC8563SDSCT; Eco-Plan: Green (RoHS & no Sb/Br); Mounting Technology: Surface Mount; ComponentLink1Description: Manufacturer URL; ComponentLink1URL: http://www.ti.com/; ComponentLink2Description: Datasheet; ComponentLink2URL: http://www.ti.com/general/docs/lit/getliterature.tsp?genericPartNumber=DAC8563&fileType=pdf; ComponentLink3Description: Package Specification; ComponentLink3URL: http://www.ti.com/litv/pdf/mpds239d
footprint TI-DSC10-2550X1050TP_V (SON, 10-Leads, Body 3x3mm, Pitch 0.5mm, Thermal Pad 2.91x1.05mm)
pins: 1 VOUTA (out) "Analog output voltage from DAC-A", 2 VOUTB (out) "Analog output voltage from DAC-B", 3 GND (power) "Ground reference point for all circuitry on the device", 4 ~{LDAC} (in) "In synchronous mode, data are updated with the falling edge of the 24th SCLK cycle, which follows a falling edge of S\Y\N\C\. For such synchronous updates, the L\D\A\C\ pin is not required, and it must be connected to GND (See Datasheet)", 5 ~{CLR} (in) "Asynchronous clear input. The C\L\R\ input is falling-edge sensitive. When C\L\R\ is activated, zero scale (DACxx62) or mid-scale (DACxx63) is loaded to all input and DAC registers. This sets the DAC output voltages (See Datasheet)", 6 ~{SYNC} (in) "Level-triggered control input (active-low). This input is the frame synchronization signal for the input data. When S\Y\N\C\ goes low, it enables the input shift register, and data are sampled on subsequent falling clock (See Datasheet)", 7 SCLK (in) "Serial clock input. Data can be transferred at rates up to 50 MHz. Schmitt-trigger logic input", 8 DIN (in) "Serial data input. Data are clocked into the 24-bit input shift register on each falling edge of the serial clock input. Schmitt-trigger logic input", 9 AVDD (power) "Power-supply input, 2.7 V to 5.5 V", 10 VREFIN/VREFOUT (io) "Bidirectional voltage reference pin. If internal reference is used, 2.5-V output.", 11 EP (power) "It is recommended to connect the thermal pad to the ground plane for better thermal dissipation."